# Altium footprint library PcbLib.PcbLib: 28 footprints (part 2 of 2)
Each footprint in its own frame and in the unit in brackets; x right, y up, seen from the top. Pads: shape width x height; smd on the part's side, far side on the other; paste and mask are expansions set on the pad; w line width, h text height; cw(c..) or ccw(c..) is an arc to the next point about the centre after c.
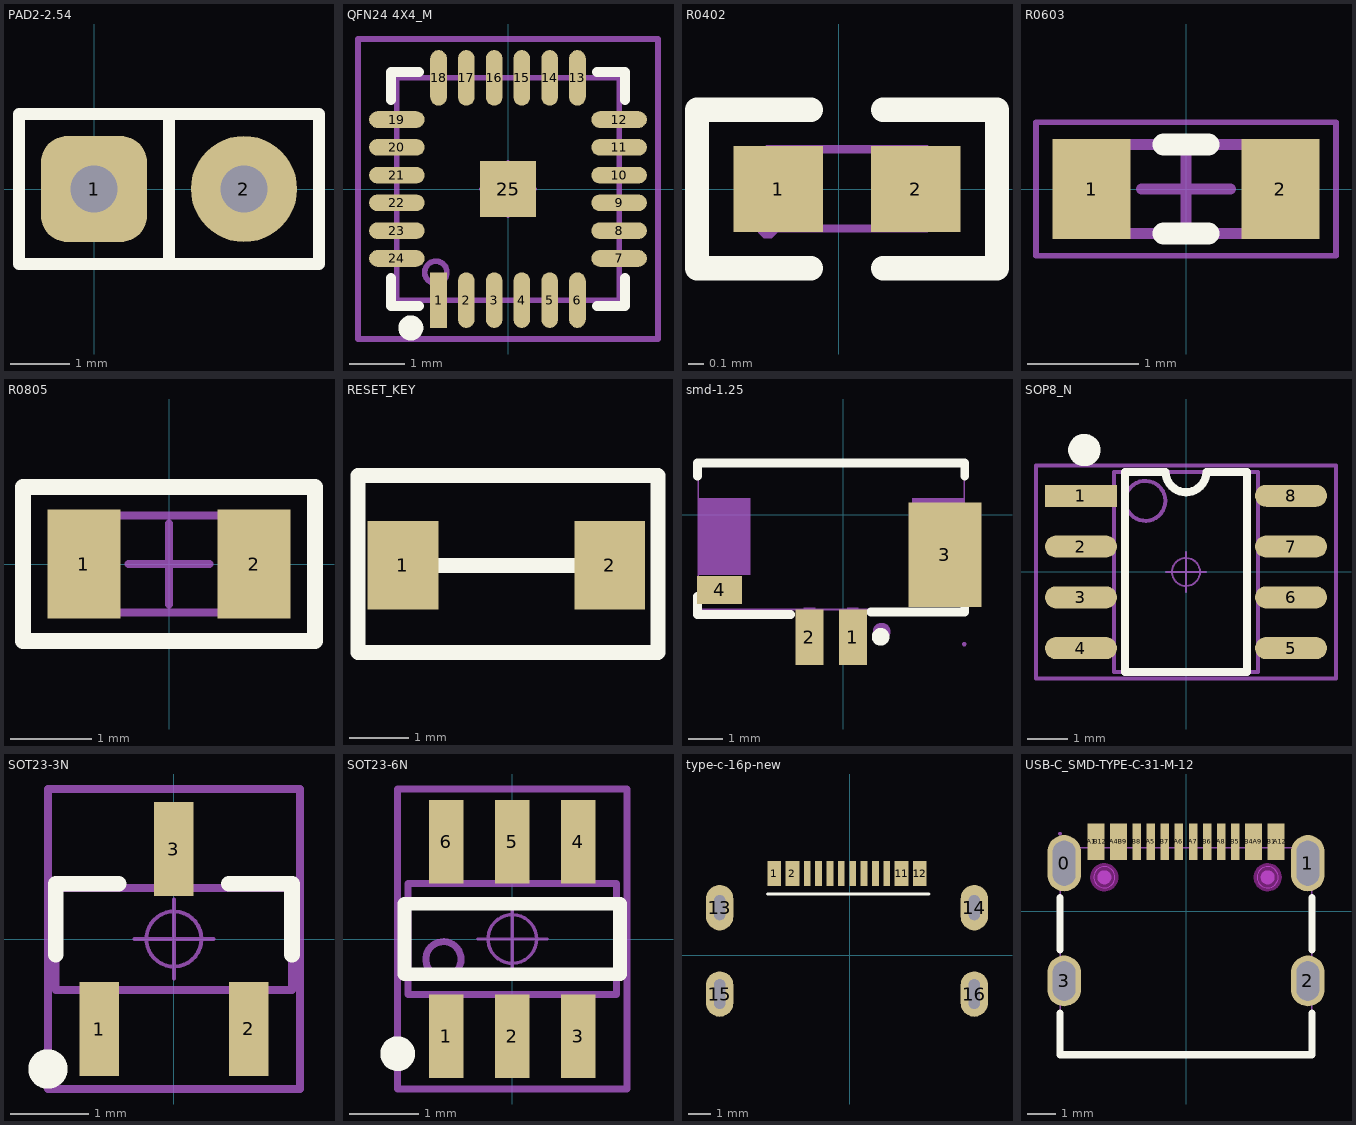
[diagram p1: the footprints below, top view; thin cyan lines are the x and y axes]

## PAD2-2.54 [mm] "引线焊盘"
height 0.5
pads (2):
  rrect50% 1.8x1.8 hole 0.8: 1(0,0)
  round 1.8 hole 0.8: 2(2.54,0)
Top Overlay:
  lines w0.203: 1.27,-1.27 1.27,1.27 ; -1.27,-1.27 3.81,-1.27 3.81,1.27 -1.27,1.27 -1.27,-1.27

## QFN24 4X4_M [mm] "24脚，长x宽x高：4x4x1mm，脚距：0.5mm"
height 1.2
pads (25):
  rect 0.3x1 smd: 1(-1.25,-2)
  oval 0.3x1 smd: 2(-0.75,-2) 3(-0.25,-2) 4(0.25,-2) 5(0.75,-2) 6(1.25,-2) 13(1.25,2) 14(0.75,2) 15(0.25,2) 16(-0.25,2) 17(-0.75,2) 18(-1.25,2)
  oval 1x0.3 smd: 7(2,-1.25) 8(2,-0.75) 9(2,-0.25) 10(2,0.25) 11(2,0.75) 12(2,1.25) 19(-2,1.25) 20(-2,0.75) 21(-2,0.25) 22(-2,-0.25) 23(-2,-0.75) 24(-2,-1.25)
  rect 1x1 smd: 25(0,0)
Top Overlay:
  circle w0.25: c-1.75,-2.5 r0.1
  lines w0.178: -2.106,-1.6 -2.106,-2.106 -1.6,-2.106 ; -2.106,1.6 -2.106,2.106 -1.6,2.106 ; 1.6,-2.106 2.106,-2.106 2.106,-1.6 ; 1.6,2.106 2.106,2.106 2.106,1.6
Mechanical 13:
  circle w0.1: c-1.3,-1.5 r0.2
  lines w0.1: -2,-2 2,-2 2,2 -2,2 -2,-2
Mechanical 15:
  circle w0.05: c0,0 r0.35
  lines w0.05: -0.5,0 0.5,0 ; 0,-0.5 0,0.5
  lines w0.1: -2.7,-2.7 -2.7,2.7 2.7,2.7 2.7,-2.7 -2.7,-2.7
3D body "QFN24-4X4.STEP": height 0.95, standoff -0.05, extent -2.01,-2.01 2.01,2.01

## R0402 [mm]
pads (2):
  rect 0.566x0.54 smd paste-100 mask+0.051: 1(-0.381,0) 2(0.485,0)
Top Overlay:
  lines w0.152: -0.174,-0.499 -0.892,-0.499 -0.892,0.499 -0.174,0.499 ; 0.278,-0.499 0.996,-0.499 0.996,0.499 0.278,0.499
Top Paste:
  region: 0.187,-0.23 0.187,0.23 0.227,0.27 0.727,0.27 0.767,0.23 0.767,-0.23 0.727,-0.27 0.227,-0.27
  region: -0.083,-0.23 -0.083,0.23 -0.123,0.27 -0.624,0.27 -0.664,0.23 -0.664,-0.23 -0.624,-0.27 -0.123,-0.27
Mechanical 15:
  region: -0.388,-0.25 -0.388,-0.225 -0.423,-0.19 -0.473,-0.19 -0.508,-0.225 -0.508,-0.25 -0.508,-0.275 -0.473,-0.31 -0.423,-0.31 -0.388,-0.275
  region: 0.303,-0.25 0.303,0.25 0.553,0.25 0.553,-0.25
  region: -0.197,0.25 -0.197,-0.25 -0.447,-0.25 -0.447,0.25
  lines w0.051: -0.448,-0.25 -0.448,0.25 0.552,0.25 0.552,-0.25 -0.448,-0.25

## R0603 [mm] "Chip Resistor, 2-Leads, Body 1.60x0.80mm, IPC Medium Density"
height 0.45
pads (2):
  rect 0.7x0.9 smd: 1(-0.85,0) 2(0.85,0)
Top Overlay:
  lines w0.2: -0.2,-0.4 0.2,-0.4 ; -0.2,0.4 0.2,0.4
Mechanical 13:
  lines w0.1: -0.8,-0.4 -0.8,0.4 0.8,0.4 0.8,-0.4 -0.8,-0.4
Mechanical 15:
  lines w0.05: -1.35,-0.6 -1.35,0.6 1.35,0.6 1.35,-0.6 -1.35,-0.6
  lines w0.1: -0.4,0 0.4,0 ; 0,-0.4 0,0.4
3D body "User Library-RESC1608X05N.STEP": height 0.45, standoff 0, extent -0.775,-0.425 0.775,0.425

## R0805 [mm] "Chip Resistor, 2-Leads, Body 2.00x1.20mm, IPC Medium Density"
height 1
pads (2):
  rect 0.9x1.35 smd: 1(-1.05,0) 2(1.05,0)
Top Overlay:
  lines w0.2: -1.8,-0.95 1.8,-0.95 1.8,0.95 -1.8,0.95 -1.8,-0.95
Mechanical 13:
  lines w0.1: -1,-0.6 1,-0.6 1,0.6 -1,0.6 -1,-0.6
Mechanical 15:
  lines w0.05: -1.85,-1 1.85,-1 1.85,1 -1.85,1 -1.85,-1
  lines w0.1: -0.5,0 0.5,0 ; 0,-0.5 0,0.5
3D body "User Library-Res_Vishay_CRCW0805_2012.STEP": height 0.45, standoff 0, extent -1,-0.625 1,0.625

## RESET_KEY [mm]
pads (2):
  rect 1.2x1.5 smd: 1(-289.814,41.148) 2(-286.314,41.148)
Top Overlay:
  lines w0.254: -289.814,41.148 -286.314,41.148 ; -290.576,39.672 -285.496,39.672 -285.496,42.672 -290.576,42.672 -290.576,39.672

## smd-1.25 [mm]
pads (4):
  rect 0.8x1.6 smd: 1(0.278,-3.518) 2(-0.972,-3.518)
  rect 2.1x3 smd: 3(2.921,-1.143)
  rect 1.3x0.8 smd: 4(-3.556,-2.159)
Top Overlay:
  circle w0.254: c1.073,-3.508 r0.127
  lines w0.254: -4.187,-2.349 -4.187,-2.868 -1.517,-2.868 ; -4.187,1.113 -4.187,1.492 3.493,1.492 3.493,1.113 ; 0.793,-2.798 3.493,-2.798 3.493,-2.349
Mechanical 6:
  circle w0.254: c1.103,-3.358 r0.127
Mechanical 15:
  region: 1.978,0.482 3.478,0.482 3.478,-1.718 1.978,-1.718
  region: -4.172,0.482 -2.672,0.482 -2.672,-1.718 -4.172,-1.718
  region: 0.438,-2.668 0.438,-3.368 0.118,-3.368 0.118,-2.668
  region: -0.812,-2.668 -0.812,-3.368 -1.132,-3.368 -1.132,-2.668
  region: 0.118,-3.318 0.438,-3.318 0.438,-3.718 0.118,-3.718
  region: -1.132,-3.318 -0.812,-3.318 -0.812,-3.718 -1.132,-3.718
  region: 3.538,-3.718 3.537,-3.694 3.502,-3.66 3.454,-3.66 3.419,-3.694 3.418,-3.718 3.419,-3.742 3.454,-3.776 3.502,-3.776 3.537,-3.742
  lines w0.051: -4.172,-2.718 -4.172,1.482 3.478,1.482 3.478,-2.718 -4.172,-2.718

## SOP8_N [mm] "5*6*1.8mm（长宽高）"
height 1.75
pads (8):
  rect 1.8x0.55 smd: 1(-2.625,1.905)
  oval 1.8x0.55 smd: 2(-2.625,0.635) 3(-2.625,-0.635) 4(-2.625,-1.905) 5(2.625,-1.905) 6(2.625,-0.635) 7(2.625,0.635) 8(2.625,1.905)
Top Overlay:
  circle w0.5: c-2.54,3.048 r0.155
  lines w0.2: -1.524,2.5 -1.524,-2.5 1.524,-2.5 1.524,2.5
  lines w0.203: -1.524,2.5 -0.508,2.5 ccw(c0,2.5) 0,1.992 ccw(c0,2.5) 0.508,2.5 1.524,2.5
Mechanical 13:
  circle w0.1: c-1.016,1.778 r0.5
  lines w0.1: -1.8,-2.5 -1.8,2.5 1.8,2.5 1.8,-2.5 -1.8,-2.5
Mechanical 15:
  circle w0.05: c0,0 r0.35
  lines w0.05: -0.5,0 0.5,0 ; 0,-0.5 0,0.5
  lines w0.1: -3.75,-2.667 3.75,-2.667 3.75,2.667 -3.75,2.667 -3.75,-2.667
3D body "SOP8.STEP": height 1.9, standoff 0, extent -3.003,-2.5 3.003,2.5

## SOT23-3N [mm] "3x1.3x1mm(长宽高)"
height 1.1
pads (3):
  rect 0.5x1.2 smd: 1(-0.95,-1.143) 2(0.95,-1.143) 3(0,1.143)
Top Overlay:
  circle w0.25: c-1.6,-1.651 r0.125
  lines w0.2: -1.501,-0.2 -1.501,0.7 -0.701,0.7 ; 0.699,0.7 1.499,0.7 1.499,-0.2
Mechanical 13:
  lines w0.1: -1.5,-0.65 -1.5,0.65 1.5,0.65 1.5,-0.65 -1.5,-0.65
Mechanical 15:
  circle w0.05: c0,0 r0.35
  lines w0.05: -0.5,0 0.5,0 ; 0,-0.5 0,0.5
  lines w0.1: -1.6,-1.905 -1.6,1.905 1.6,1.905 1.6,-1.905 -1.6,-1.905
3D body "SOT23-3.STEP": height 1.05, standoff 0, extent -1.5,-1.2 1.5,1.2

## SOT23-6N [mm] "3x1.6x1.1mm(长宽高)"
height 1.45
pads (6):
  rect 0.5x1.2 smd: 1(-0.95,-1.4) 2(0,-1.4) 3(0.95,-1.4) 4(0.95,1.4) 5(0,1.4) 6(-0.95,1.4)
Top Overlay:
  circle w0.25: c-1.651,-1.651 r0.125
  lines w0.2: -1.55,-0.508 1.55,-0.508 1.55,0.508 -1.55,0.508 -1.55,-0.508
Mechanical 13:
  circle w0.1: c-0.992,-0.292 r0.254
  lines w0.1: -1.5,-0.8 -1.5,0.8 1.5,0.8 1.5,-0.8 -1.5,-0.8
Mechanical 15:
  circle w0.05: c0,0 r0.35
  lines w0.05: -0.5,0 0.5,0 ; 0,-0.5 0,0.5
  lines w0.1: -1.651,-2.159 -1.651,2.159 1.651,2.159 1.651,-2.159 -1.651,-2.159
3D body "SOT23-6.STEP": height 1.15, standoff -0.03, extent -1.5,-1.403 1.5,1.403

## type-c-16p-new [mm]
pads (16):
  rect 0.6x1.1 smd paste-100 mask+0.05: 1(-3.327,3.59) 2(-2.527,3.59) 11(2.273,3.59) 12(3.073,3.59)
  rect 0.3x1.1 smd paste-100 mask+0.05: 3(-1.877,3.59) 4(-1.377,3.59) 5(-0.877,3.59) 6(-0.377,3.59) 7(0.123,3.59) 8(0.623,3.59) 9(1.123,3.59) 10(1.623,3.59)
  oval 1.2x2 hole 0.5 slot 1.1 at 90 deg: 13(-5.727,2.097) 14(5.473,2.097)
  oval 1.2x2 hole 0.5 slot 1.3 at 90 deg: 15(-5.727,-1.703) 16(5.473,-1.703)
Top Overlay:
  lines w0.15: -3.627,2.697 3.273,2.697 3.473,2.697
Top Paste:
  region: -1.027,4.141 -0.727,4.141 -0.727,3.041 -1.027,3.041
  region: 0.473,4.141 0.773,4.141 0.773,3.041 0.473,3.041
  region: -2.027,4.141 -1.727,4.141 -1.727,3.041 -2.027,3.041
  region: -2.827,4.141 -2.227,4.141 -2.227,3.041 -2.827,3.041
  region: -0.527,4.141 -0.227,4.141 -0.227,3.041 -0.527,3.041
  region: -1.527,4.141 -1.227,4.141 -1.227,3.041 -1.527,3.041
  region: -3.627,4.141 -3.027,4.141 -3.027,3.041 -3.627,3.041
  region: -0.027,4.141 0.273,4.141 0.273,3.041 -0.027,3.041
  region: 1.973,4.141 2.573,4.141 2.573,3.041 1.973,3.041
  region: 2.773,4.14 3.373,4.14 3.373,3.04 2.773,3.04
  region: 0.973,4.141 1.273,4.141 1.273,3.041 0.973,3.041
  region: 1.473,4.141 1.773,4.141 1.773,3.041 1.473,3.041
3D body "TYPEC_6P.STEP": height 1.59, standoff -1.57, extent -5.827,-3.503 5.573,3.047

## USB-C_SMD-TYPE-C-31-M-12 [mm]
pads (20):
  oval 1.2x2 hole 0.8 slot 1.6 at 90 deg: 0(-4.325,1.706) 1(4.325,1.706)
  oval 1.2x1.8 hole 0.8 slot 1.4 at 90 deg: 2(4.325,-2.474) 3(-4.325,-2.474)
  rect 0.3x1.3 smd paste-100 mask+0.051: A1(-3.35,2.474) A4(-2.55,2.474) A5(-1.25,2.474) A6(-0.25,2.474) A7(0.25,2.474) A8(1.25,2.474) A9(2.55,2.474) A12(3.35,2.474) B1(3.05,2.474) B4(2.25,2.474) B5(1.75,2.474) B6(0.75,2.474) B7(-0.75,2.474) B8(-1.75,2.474) B9(-2.25,2.474) B12(-3.05,2.474)
Top Overlay:
  lines w0.254: -4.469,-3.613 -4.469,-5.094 4.471,-5.094 4.471,-3.612 ; -4.469,-1.376 -4.469,0.487 ; 4.471,-1.376 4.471,0.488
Top Paste:
  drawing of 16 lines, arcs and shapes, not listed
Keep-Out Layer:
  board cut-out: 3.275,1.206 3.275,1.28 3.218,1.418 3.112,1.524 2.974,1.581 2.825,1.581 2.687,1.524 2.582,1.418 2.525,1.28 2.525,1.206 2.525,1.131 2.582,0.993 2.687,0.888 2.825,0.831 2.974,0.831 3.112,0.888 3.218,0.993 3.275,1.131
  board cut-out: -2.525,1.206 -2.525,1.28 -2.582,1.418 -2.688,1.524 -2.825,1.581 -2.975,1.581 -3.112,1.524 -3.218,1.418 -3.275,1.28 -3.275,1.206 -3.275,1.131 -3.218,0.993 -3.112,0.888 -2.975,0.831 -2.825,0.831 -2.688,0.888 -2.582,0.993 -2.525,1.131
Keep-Out Layer:
  circle w0.254: c2.9,1.206 r0.375
  circle w0.025: c2.9,1.206 r0.375
  circle w0.254: c-2.9,1.206 r0.375
  circle w0.025: c-2.9,1.206 r0.375
Mechanical 1:
  circle w0.025: c2.9,1.206 r0.375
  circle w0.025: c-2.9,1.206 r0.375
Mechanical 6:
  circle w0.25: c-2.9,1.206 r0.125
  circle w0.25: c2.9,1.206 r0.125
Mechanical 15:
  region: -3.41,2.756 -3.21,2.756 -3.21,2.056 -3.41,2.056
  region: -3.21,2.756 -3.01,2.756 -3.01,2.056 -3.21,2.056
  region: -2.61,2.756 -2.41,2.756 -2.41,2.056 -2.61,2.056
  region: -2.41,2.756 -2.21,2.756 -2.21,2.056 -2.41,2.056
  region: 2.21,2.756 2.41,2.756 2.41,2.056 2.21,2.056
  region: 2.41,2.756 2.61,2.756 2.61,2.056 2.41,2.056
  region: -1.85,2.756 -1.65,2.756 -1.65,2.056 -1.85,2.056
  region: -1.35,2.756 -1.15,2.756 -1.15,2.056 -1.35,2.056
  region: -0.85,2.756 -0.65,2.756 -0.65,2.056 -0.85,2.056
  region: -0.35,2.756 -0.15,2.756 -0.15,2.056 -0.35,2.056
  region: 0.15,2.756 0.35,2.756 0.35,2.056 0.15,2.056
  region: 0.65,2.756 0.85,2.756 0.85,2.056 0.65,2.056
  region: 1.15,2.756 1.35,2.756 1.35,2.056 1.15,2.056
  region: 1.65,2.756 1.85,2.756 1.85,2.056 1.65,2.056
  region: 3.01,2.756 3.21,2.756 3.21,2.056 3.01,2.056
  region: 3.21,2.756 3.41,2.756 3.41,2.056 3.21,2.056
  region: -4.475,2.256 -4.175,2.256 -4.175,1.156 -4.475,1.156
  region: 4.175,2.256 4.475,2.256 4.475,1.156 4.175,1.156
  region: 4.175,-2.074 4.475,-2.074 4.475,-2.874 4.175,-2.874
  region: -4.475,-2.074 -4.175,-2.074 -4.175,-2.874 -4.475,-2.874
  region: -4.415,2.756 -4.416,2.78 -4.451,2.813 -4.499,2.813 -4.534,2.78 -4.535,2.756 -4.534,2.732 -4.499,2.699 -4.451,2.699 -4.416,2.732
  lines w0.051: -4.47,-5.094 4.47,-5.094 4.47,2.256 -4.47,2.256 -4.47,-5.094